# Altium schematic symbol library SCH - POWER - LINEAR VREG - ONSEMI MC7800 DPAK.SCHLIB: 1 symbol
Pins are listed as number, name and electrical type; pins without a type are passive.

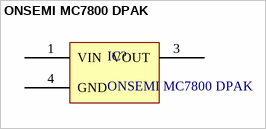
[diagram p0: symbol ONSEMI MC7800 DPAK]

## ONSEMI MC7800 DPAK
designator IC?
pins: 1 VIN, 3 VOUT, 4 GND